# Altium footprint library MZ7XBFUN20171130.PcbLib: 50 footprints (part 1 of 4)
Each footprint in its own frame and in the unit in brackets; x right, y up, seen from the top. Pads: shape width x height; smd on the part's side, far side on the other; paste and mask are expansions set on the pad; w line width, h text height; cw(c..) or ccw(c..) is an arc to the next point about the centre after c.
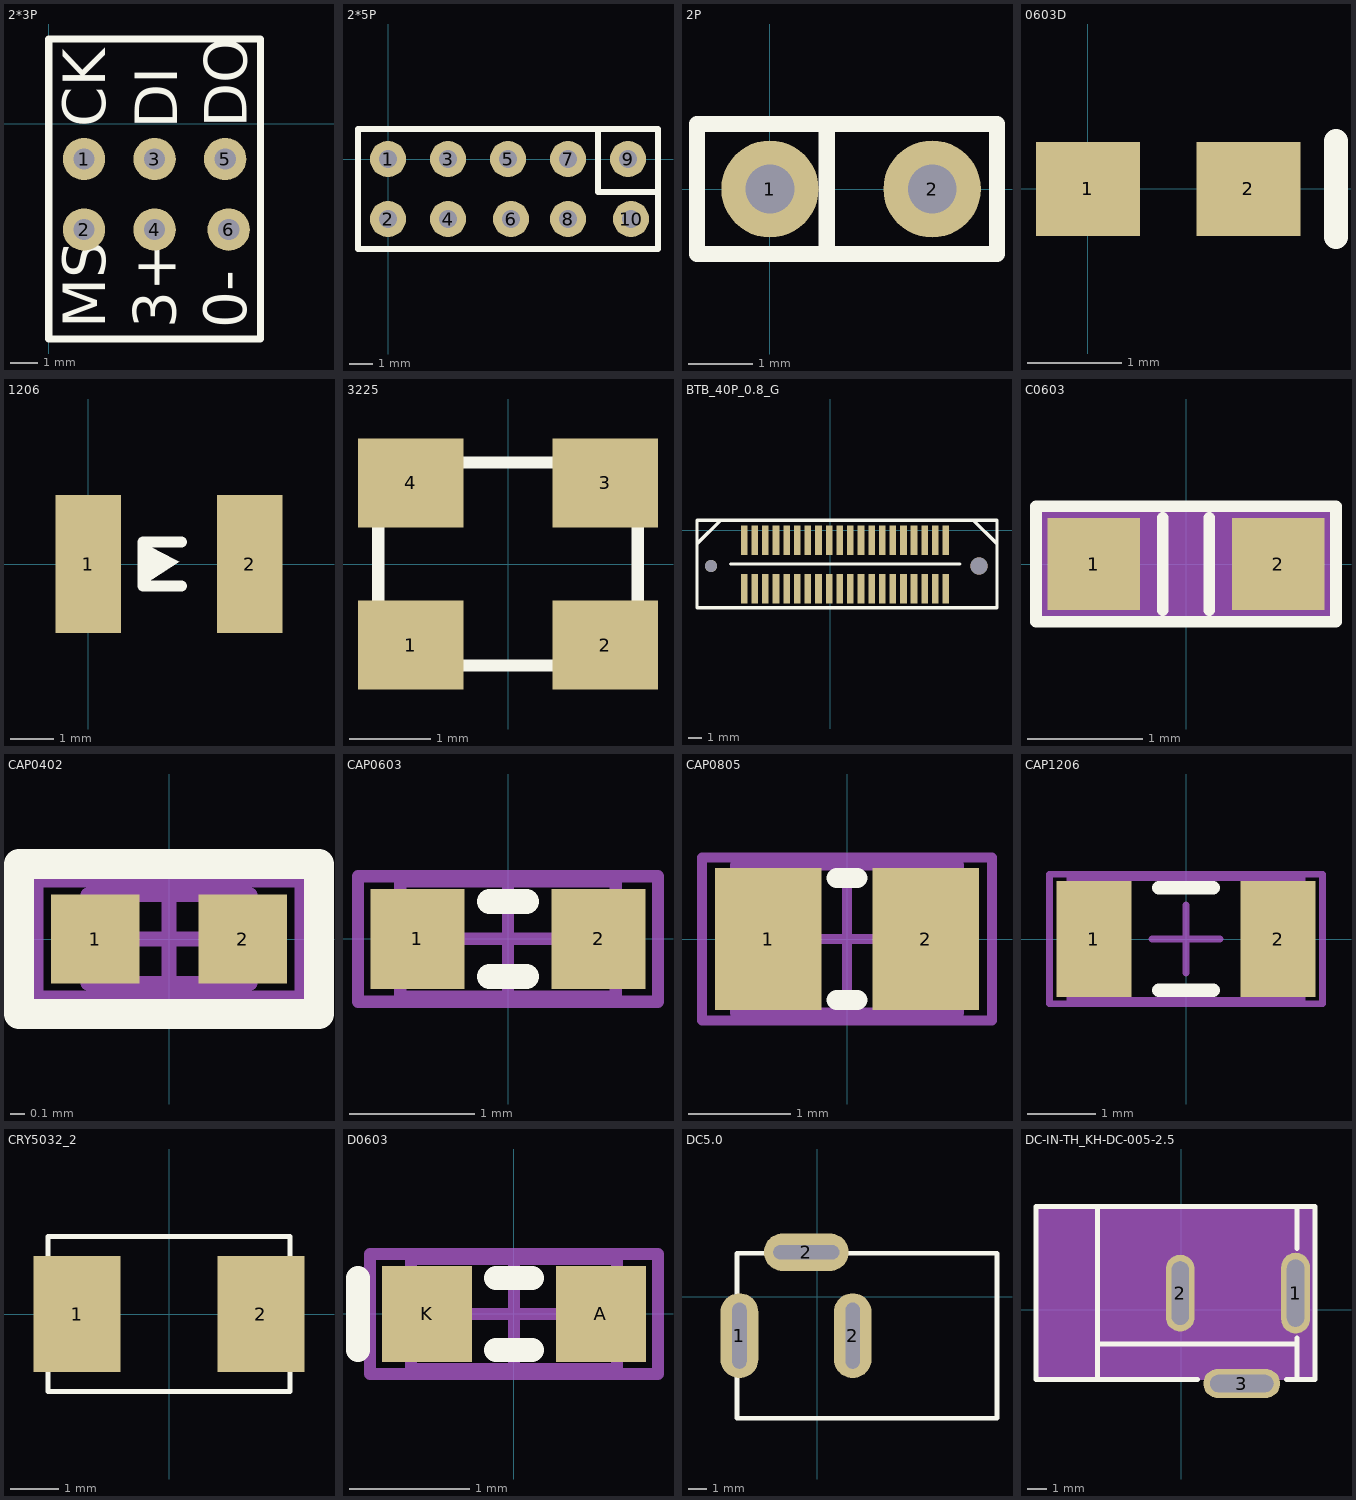
[diagram p0: the footprints below, top view; thin cyan lines are the x and y axes]

## 2*3P [mil]
pads (6):
  round 60 hole 30: 1(50,-50) 2(50,-150) 3(150,-50) 4(150,-150) 5(250,-50) 6(255,-150)
Top Overlay:
  lines w10: 0,-305 0,120 300,120 300,-305 0,-305
  text "CK" at 80,-5 h60
  text "DI" at 182.07,-6.81 h60
  text "DO" at 280.77,-5.48 h60
  text "MS" at 80,-290 h60
  text "3+" at 180,-290 h60
  text "0-" at 280,-290 h60

## 2*5P [mil]
pads (10):
  round 60 hole 30: 1(0,0) 2(0,-100) 3(100,0) 4(100,-100) 5(200,0) 6(205,-100) 7(300,0) 8(300,-100) 9(400,0) 10(405,-100)
Top Overlay:
  lines w10: 350,45 350,-55 445,-55 ; -50,-150 450,-150 450,50 -50,50 -50,-150

## 2P [mil]
pads (2):
  round 60 hole 30: 1(0,0) 2(100,0)
Top Overlay:
  lines w10: 35,-40 35,35 ; -45,-40 140,-40 140,40 -45,40 -45,-40

## 0603D [mm]
pads (2):
  rect 1.1x1 smd: 1(0,0) 2(1.7,0)
Top Overlay:
  lines w0.254: 2.628,-0.508 2.628,0.508
3D body: height 0.76, standoff 0, extent -0.635,-0.584 2.337,0.584

## 1206 [mil]
pads (2):
  rect 60x125.98 smd: 1(0,0) 2(147,0)
Top Overlay:
  region: 49,20 65,11 83,2 49,-20
  lines w10: 85,-20 50,-20 50,20 85,20
3D body: height 52, standoff 0, extent 157,-34 168,34
3D body: height 52, standoff 0, extent -34,-34 -23,34
3D body: height 50, standoff 0, extent -23,-34 157,34

## 3225 [mm]
pads (4):
  rect 1.3x1.1 smd: 1(-1.2,-1) 2(1.2,-1) 3(1.2,1) 4(-1.2,1)
Top Overlay:
  lines w0.15: -1.6,-1.25 1.6,-1.25 1.6,1.25 -1.6,1.25 -1.6,-1.25

## BTB_40P_0.8_G [mm]
pads (42):
  rect 0.5x2.22 smd: 1(-6.477,-0.762) 2(-5.677,-0.762) 3(-4.877,-0.762) 4(-4.077,-0.762) 5(-3.277,-0.762) 6(-2.477,-0.762) 7(-1.677,-0.762) 8(-0.877,-0.762) 9(-0.077,-0.762) 10(0.723,-0.762) 11(1.523,-0.762) 12(2.323,-0.762) 13(3.123,-0.762) 14(3.923,-0.762) 15(4.723,-0.762) 16(5.523,-0.762) 17(6.323,-0.762) 18(7.123,-0.762) 19(7.923,-0.762) 20(8.723,-0.762) 21(8.723,-4.402) 22(7.923,-4.402) 23(7.123,-4.402) 24(6.323,-4.402) 25(5.523,-4.402) 26(4.723,-4.402) 27(3.923,-4.402) 28(3.123,-4.402) 29(2.323,-4.402) 30(1.523,-4.402) 31(0.723,-4.402) 32(-0.077,-4.402) 33(-0.877,-4.402) 34(-1.677,-4.402) 35(-2.477,-4.402) 36(-3.277,-4.402) 37(-4.077,-4.402) 38(-4.877,-4.402) 39(-5.677,-4.402) 40(-6.477,-4.402)
  round 0.9 hole 0.9 unplated: ""(-8.976,-2.692)
  round 1.3 hole 1.3 unplated: ""(11.222,-2.692)
Top Overlay:
  lines w0.254: -10.033,-2.54 -10.033,-1.016 -8.255,0.762 ; -7.493,-2.54 9.779,-2.54 ; 10.795,0.762 12.573,-1.016 12.573,-2.54 ; -10.033,-5.842 -10.033,0.762 12.573,0.762 12.573,-5.842 -10.033,-5.842

## C0603 [mm]
pads (2):
  rect 0.8x0.8 smd: 1(-0.8,0) 2(0.8,0)
Top Overlay:
  lines w0.1: -0.2,-0.4 -0.2,0.4 ; 0.2,-0.4 0.2,0.4 ; -1.3,-0.5 -1.3,0.5 1.3,0.5 1.3,-0.5 -1.3,-0.5
Mechanical 7:
  lines w0.025: -0.8,-0.4 -0.8,0.4 0.8,0.4 0.8,-0.4 -0.8,-0.4
Mechanical 8:
  region: -1.3,-0.5 1.3,-0.5 1.3,0.5 -1.3,0.5
3D body: height 3.81, standoff 0, extent -1.3,-0.5 1.3,0.5

## CAP0402 [mm]
pads (2):
  rect 0.6x0.6 smd: 1(-0.5,0) 2(0.5,0)
Top Overlay:
  lines w0.2: -1.016,-0.508 -1.016,0.508 1.016,0.508 1.016,-0.508 -1.016,-0.508
Mechanical 13:
  lines w0.1: -0.55,-0.3 -0.55,0.3 0.55,0.3 0.55,-0.3 -0.55,-0.3
Mechanical 15:
  lines w0.1: -0.3,0 0.3,0 ; 0,-0.3 0,0.3 ; -0.9,-0.4 -0.9,0.4 0.9,0.4 0.9,-0.4 -0.9,-0.4
3D body: height 0.6, standoff 0, extent -0.55,-0.3 0.55,0.3

## CAP0603 [mm]
pads (2):
  rect 0.75x0.8 smd: 1(-0.725,0) 2(0.725,0)
Top Overlay:
  lines w0.2: -0.15,-0.3 0.15,-0.3 ; -0.15,0.3 0.15,0.3
Mechanical 13:
  lines w0.1: -0.86,-0.46 -0.86,0.46 0.86,0.46 0.86,-0.46 -0.86,-0.46
Mechanical 15:
  lines w0.1: -0.46,0 0.46,0 ; 0,-0.46 0,0.46 ; -1.2,-0.5 -1.2,0.5 1.2,0.5 1.2,-0.5 -1.2,-0.5
3D body: height 0.92, standoff 0, extent -0.86,-0.46 0.86,0.46

## CAP0805 [mm]
pads (2):
  rect 1.05x1.4 smd: 1(-0.775,0) 2(0.775,0)
Top Overlay:
  lines w0.2: -0.1,-0.6 0.1,-0.6 ; -0.1,0.6 0.1,0.6
Mechanical 13:
  lines w0.1: -1.1,-0.725 1.1,-0.725 1.1,0.725 -1.1,0.725 -1.1,-0.725
Mechanical 15:
  lines w0.1: -0.5,0 0.5,0 ; 0,-0.5 0,0.5 ; -1.425,-0.8 1.425,-0.8 1.425,0.8 -1.425,0.8 -1.425,-0.8
3D body: height 1.45, standoff 0, extent -1.1,-0.725 1.1,0.725

## CAP1206 [mm]
pads (2):
  rect 1.1x1.7 smd: 1(-1.35,0) 2(1.35,0)
Top Overlay:
  lines w0.2: -0.4,-0.75 0.4,-0.75 ; -0.4,0.75 0.4,0.75
Mechanical 13:
  lines w0.1: -1.7,-0.9 1.7,-0.9 1.7,0.9 -1.7,0.9 -1.7,-0.9
Mechanical 15:
  lines w0.1: -0.5,0 0.5,0 ; 0,-0.5 0,0.5 ; -2,-0.95 2,-0.95 2,0.95 -2,0.95 -2,-0.95
3D body: height 1.3, standoff 0, extent -1.7,-0.9 1.7,0.9

## CRY5032_2 [mm]
pads (2):
  rect 1.8x2.4 smd: 1(-1.9,0) 2(1.9,0)
Top Overlay:
  lines w0.1: -2.5,-1.6 -2.5,1.6 2.5,1.6 2.5,-1.6 -2.5,-1.6
Mechanical 6:
  text "1" at -1.9,-0.572 h0.76
  text "2" at 1.9,-0.572 h0.76
Mechanical 7:
  lines w0.025: -2.5,-1.6 -2.5,1.6 2.5,1.6 2.5,-1.6 -2.5,-1.6
3D body: height 3.81, standoff 0, extent -3,-1.8 3,1.8

## D0603 [mm]
pads (2):
  rect 0.75x0.8 smd: A(0.725,0) K(-0.725,0)
Top Overlay:
  lines w0.2: -0.15,-0.3 0.15,-0.3 ; -0.15,0.3 0.15,0.3
  lines w0.203: -1.3,-0.3 -1.3,0.3
Mechanical 13:
  lines w0.1: -0.86,-0.46 0.86,-0.46 0.86,0.46 -0.86,0.46 -0.86,-0.46
Mechanical 15:
  lines w0.1: -0.46,0 0.46,0 ; 0,-0.46 0,0.46 ; -1.2,-0.5 1.2,-0.5 1.2,0.5 -1.2,0.5 -1.2,-0.5
3D body: height 0.92, standoff 0, extent -0.86,-0.46 0.86,0.46

## DC5.0 [mil]
pads (3):
  oval 80x180 hole 30 slot 140 at 90 deg: 1(-165.16,-83) 2(75,-83)
  oval 180x80 hole 30 slot 140 at 0 deg: 2(-23.43,94)
Top Overlay:
  lines w10: -170.16,-258 -170.16,92 381.02,92 381.02,-258 -170.16,-258

## DC-IN-TH_KH-DC-005-2.5 [mm]
pads (3):
  oval 1.5x4.2 hole 0.9 slot 3.5 at 90 deg: 1(5.938,0.861)
  oval 1.5x4 hole 0.9 slot 3.3 at 90 deg: 2(-0.061,0.861)
  oval 4x1.5 hole 0.9 slot 3.3 at 0 deg: 3(3.139,-3.838)
Top Overlay:
  lines w0.254: -4.362,-3.638 -4.362,5.361 ; -4.362,-1.787 6.013,-1.787 ; 0.828,-3.638 -7.561,-3.638 -7.561,5.361 6.938,5.361 6.938,-3.638 5.449,-3.638 ; 6.013,-3.638 6.013,-1.787 ; 6.013,-1.467 6.013,-1.787 ; 6.013,3.19 6.013,5.361
Mechanical 4:
  region: -7.561,-3.638 -7.561,5.362 6.938,5.362 6.938,-3.638
Mechanical 5:
  region: 2.139,-3.638 4.139,-3.638 4.139,-4.038 2.139,-4.038
  pour cut-out: 2.138,-4.038 4.138,-4.038 4.138,-3.589 2.138,-3.589
  region: -0.261,1.861 0.139,1.861 0.139,-0.139 -0.261,-0.139
  region: 5.739,2.111 6.139,2.111 6.139,-0.389 5.739,-0.389
Mechanical 6:
  circle w0.06: c6.939,5.361 r0.03
Mechanical 15:
  circle w0.6: c5.939,3.712 r0.3